# Altium footprint library JTAG_to_HDMI.PcbLib: 3 footprints
Each footprint in its own frame and in the unit in brackets; x right, y up, seen from the top. Pads: shape width x height; smd on the part's side, far side on the other; paste and mask are expansions set on the pad; w line width, h text height; cw(c..) or ccw(c..) is an arc to the next point about the centre after c.
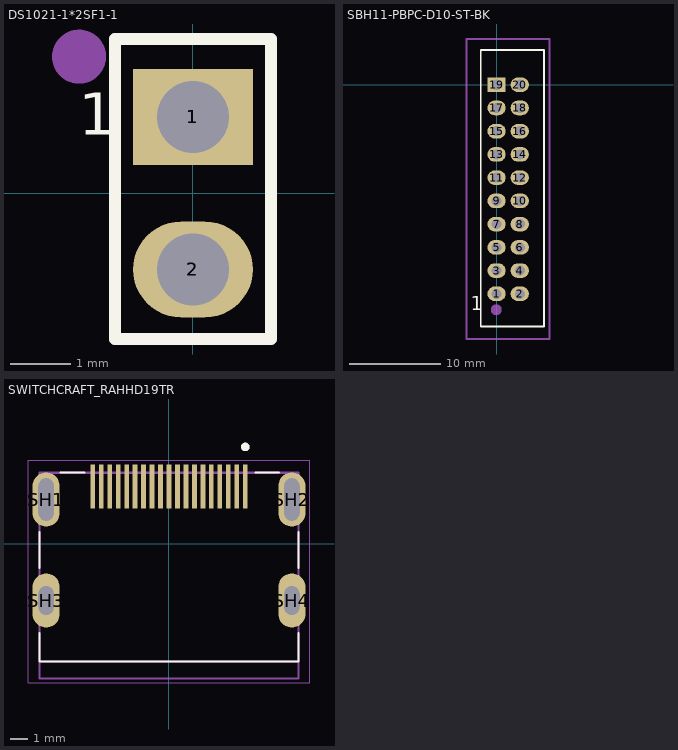
[diagram p0: the footprints below, top view; thin cyan lines are the x and y axes]

## DS1021-1*2SF1-1 [mm]
pads (4):
  rect 2x1.6 hole 1.2: 1(0,1.27) 1(0,1.27)
  oval 2x1.6 hole 1.2: 2(0,-1.27) 2(0,-1.27)
Top Overlay:
  lines w0.2: -1.3,-2.43 -1.3,2.57 1.3,2.57 1.3,-2.43 -1.3,-2.43
  text "1" at -1.9,0.97 h0.7
Top Assembly:
  circle w0.5: c-1.9,2.275 r0.2
  lines w0.2: -1.3,-2.43 -1.3,2.57 1.3,2.57 1.3,-2.43 -1.3,-2.43
  text ".Designator" at -3.499,-0.233 h0.7
3D body "DS1021-1_2SF1-1.STEP": height 5.51, standoff -6.09, extent -1.17,-2.47 1.37,2.61
3D body "DS1021-1_2SF1-1.STEP": height 5.51, standoff -6.09, extent -1.07,-2.44 1.47,2.64

## SBH11-PBPC-D10-ST-BK [mm]
pads (20):
  oval 2x1.6 hole 1.1: 1(0,-22.86) 2(2.54,-22.86) 3(0,-20.32) 4(2.54,-20.32) 5(0,-17.78) 6(2.54,-17.78) 7(0,-15.24) 8(2.54,-15.24) 9(0,-12.7) 10(2.54,-12.7) 11(0,-10.16) 12(2.54,-10.16) 13(0,-7.62) 14(2.54,-7.62) 15(0,-5.08) 16(2.54,-5.08) 17(0,-2.54) 18(2.54,-2.54) 20(2.54,0)
  rect 2x1.6 hole 1.1: 19(0,0)
Top Overlay:
  lines w0.2: 5.175,-26.45 5.175,3.8 -1.725,3.8 -1.725,-26.4 -1.675,-26.45 5.175,-26.45 ; 5.175,-26.45 5.175,-26.45
  text "1" at -2.796,-24.646 h1.52
Top Assembly:
  circle w0.6: c-0.025,-24.6 r0.283
  lines w0.2: -3.3,-27.8 -3.3,5 5.8,5 5.8,-27.8 -3.3,-27.8
  text ".Designator" at -2.229,-11.663 h0.7
3D body "SFH11-xxPC-D10-ST-BK.STEP": height 8.51, standoff -3.19, extent -2.65,-26.565 4.45,3.755

## SWITCHCRAFT_RAHHD19TR [mm]
height 6.18
pads (23):
  rect 0.28x2.6 smd: 1(4.5,3.36) 2(4,3.36) 3(3.5,3.36) 4(3,3.36) 5(2.5,3.36) 6(2,3.36) 7(1.5,3.36) 8(1,3.36) 9(0.5,3.36) 10(0,3.36) 11(-0.5,3.36) 12(-1,3.36) 13(-1.5,3.36) 14(-2,3.36) 15(-2.5,3.36) 16(-3,3.36) 17(-3.5,3.36) 18(-4,3.36) 19(-4.5,3.36)
  oval 1.6x3.2 hole 0.9 slot 2.5 at 90 deg: SH1(-7.25,2.6) SH2(7.25,2.6)
  oval 1.6x3.2 hole 0.9 slot 1.7 at 90 deg: SH3(-7.25,-3.36) SH4(7.25,-3.36)
Top Overlay:
  circle w0.3: c4.5,5.7 r0.1
  lines w0.127: -7.65,-5.28 -7.65,-6.95 7.65,-6.95 7.65,-5.28 ; -7.65,-1.44 -7.65,0.68 ; -6.4,4.2 -5,4.2 ; 5.1,4.2 6.5,4.2 ; 7.65,-1.44 7.65,0.68
Top Assembly:
  circle w0.3: c4.5,5.7 r0.1
  lines w0.127: -7.65,-5.28 -7.65,-6.95 7.65,-6.95 7.65,-5.28 ; -7.65,-1.44 -7.65,0.68 ; -6.4,4.2 -5,4.2 ; 5.1,4.2 6.5,4.2 ; 7.65,-1.44 7.65,0.68
  text ".Designator" at -3.499,-0.233 h0.7
Mechanical 13:
  circle w0.2: c4.5,5.66 r0.1
  lines w0.127: -7.65,-7.96 -7.65,-6.95 -7.65,4.18 7.65,4.18 7.65,-7.96 -7.65,-7.96
Mechanical 15:
  lines w0.05: -8.3,-8.21 8.3,-8.21 8.3,4.91 -8.3,4.91 -8.3,-8.21
3D body "step_temp.STEP": height 6.17, standoff -2.13, extent -7.6,-7.97 7.7,4.17